# Altium schematic symbol library ASPI-0530HI-2R2M-T2.SchLib: 1 symbol
Pins are listed as number, name and electrical type; pins without a type are passive.

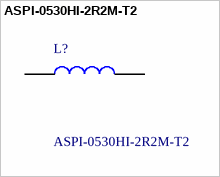
[diagram p0: symbol ASPI-0530HI-2R2M-T2]

## ASPI-0530HI-2R2M-T2
designator L?
2.2 H Shielded Molded Inductor 5.5 A 35mOhm Max Nonstandard; Manufacturer_Name: ABRACON; Geometry.Height: 3mm; Mouser Part Number: 815-ASPI0530HI2R2MT2; Mouser Price/Stock: https://www.mouser.co.uk/ProductDetail/ABRACON/ASPI-0530HI-2R2M-T2?qs=bWAYEm3xoCbWzF7ky072%2FA%3D%3D; Manufacturer_Part_Number: ASPI-0530HI-2R2M-T2; Datasheet Link: https://abracon.com/Magnetics/power/ASPI-0530HI.pdf
footprint INDPM5652X300N
pins: 1, 2